# EAGLE library part LTC2954 (library GeekAmmo)
LTC2954 Push Button On/Off Controller with uP Interrupt The LTC®2954 is a pushbutton on/off controller that manages system power via a pushbutton interface. http://www.linear.com/docs/16598
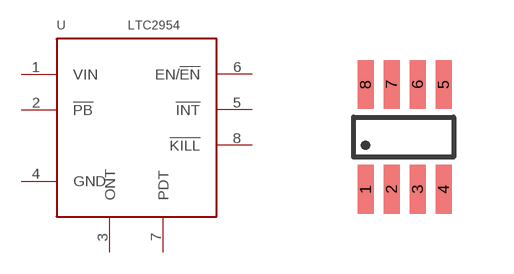
[diagram p4: symbol with the pads of SOT23-8; footprint SOT23-8]

Designator prefix -

## LTC2954  [SOT23-8]
1  VIN  pwr
2  !PB!  pas
3  ONT  pas
4  GND  pwr
5  !INT!  out
6  EN/!EN!  out
7  PDT  pas
8  !KILL!  in

## Footprint SOT23-8 (pad centres in mm)
SOT23-8
smd 0.4 x 1.22: 1 0,0; 2 0.65,0; 3 1.3,0; 4 1.95,0; 5 1.95,2.62; 6 1.3,2.62; 7 0.65,2.62; 8 0,2.62